# EAGLE library part MMPQ3904 (library on-semiconductor)
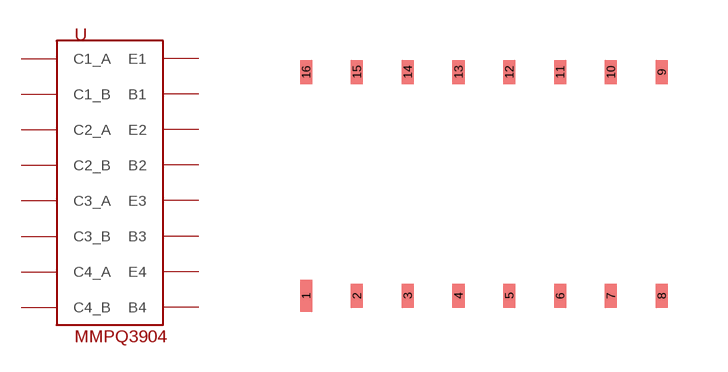
[diagram p11: symbol with the pads of SOIC16NB; footprint SOIC16NB]

Designator prefix -

## MMPQ3904  [SOIC16NB]
1  C1_A
2  C1_B
3  C2_A
4  C2_B
5  C3_A
6  C3_B
7  C4_A
8  C4_B
9  B4
10  E4
11  B3
12  E3
13  B2
14  E2
15  B1
16  E1

## Footprint SOIC16NB (pad centres in mm)
smd 0.305 x 0.8: 1 -4.445,-2.8
smd 0.305 x 0.61: 2 -3.175,-2.8; 3 -1.905,-2.8; 4 -0.635,-2.8; 5 0.635,-2.8; 6 1.905,-2.8; 7 3.175,-2.8; 8 4.445,-2.8; 9 4.445,2.8; 10 3.175,2.8; 11 1.905,2.8; 12 0.635,2.8; 13 -0.635,2.8; 14 -1.905,2.8; 15 -3.175,2.8; 16 -4.445,2.8